# Altium schematic symbol library INA219.SchLib: 1 symbol
Pins are listed as number, name and electrical type; pins without a type are passive.

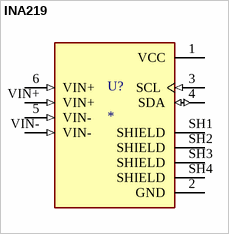
[diagram p0: symbol INA219]

## INA219
designator U?
INA219 High Side DC Current Sensor Breakout - 26V Â±3.2A Max ¦ Adafruit Industries 904; MP: INA219 High Side DC Current Sensor Breakout - 26V Â±3.2A Max - STEMMA QT; SnapEDA_Link: https://www.snapeda.com/parts/INA219%20High%20Side%20DC%20Current%20Sensor%20Breakout%20-%2026V%20%C2%B13.2A%20Max%20-%20STEMMA%20QT/Adafruit+Industries/view-part/?ref=snap; Package: NON-STANDARD-8 ADAFRUIT; Value: *; MF: Adafruit Industries; Check_prices: https://www.snapeda.com/parts/INA219%20High%20Side%20DC%20Current%20Sensor%20Breakout%20-%2026V%20%C2%B13.2A%20Max%20-%20STEMMA%20QT/Adafruit+Industries/view-part/?ref=eda
footprint MODULE_INA219
pins: 1 VCC (power), 2 GND (power), 3 SCL (in), 4 SDA (io), 5 VIN- (in), 6 VIN+ (in), SH1 SHIELD, SH2 SHIELD, SH3 SHIELD, SH4 SHIELD, VIN+ (in), VIN- (in)